# Altium schematic symbol library library-schematic-lib2.schlib: 138 symbols (part 2 of 2)
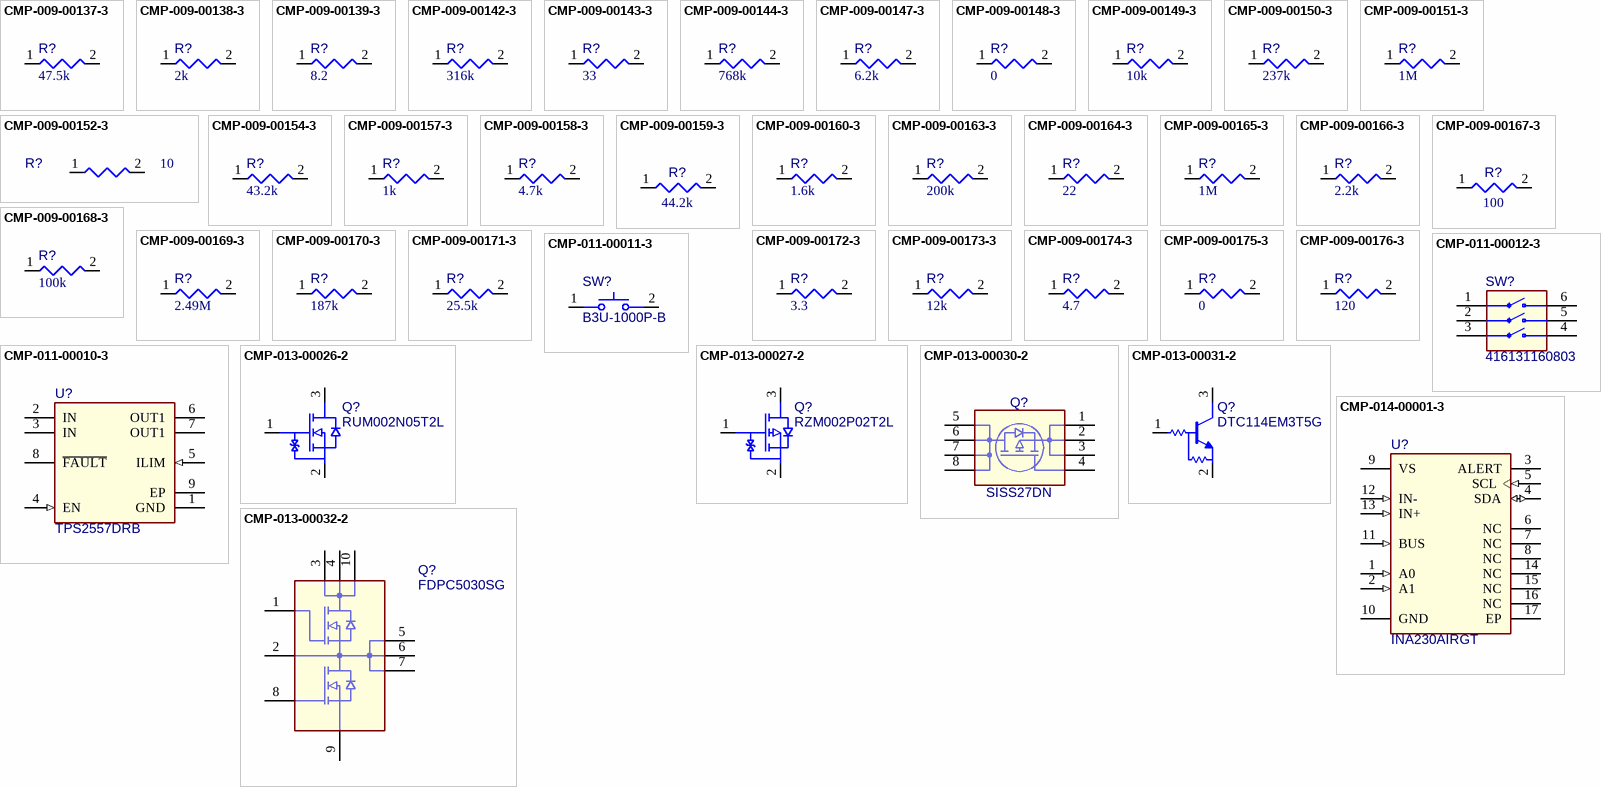
[diagram p4: symbols CMP-009-00137-3 to CMP-014-00001-3]

## CMP-009-00138-3
designator R?, comment value 2k  (hidden comment: Resistor 2K +/-5 % 0402 63 mW)
Chip Resistor, 2 kOhms, +/-5 %, 63 mW, -55 to 155 degC, 0402; Manufacturer: Bourns; Manufacturer Part Number: CR0402-JW-202GLF; Manufacturer: Yageo; Manufacturer Part Number: RC0402JR-072KL; Manufacturer: Panasonic; Manufacturer Part Number: ERJ-2GEJ202X; Manufacturer: Vishay Dale; Manufacturer Part Number: CRCW04022K00JNED; Manufacturer Part Number: CRCW04022K00JNTD; Power: 63mW; Tolerance: 5%; Case/Package: 0402; Max Operating Temperature: 155°C; Min Operating Temperature: -55°C; Pins: 2
footprint RESC0402(1005)_L (Chip Resistor, Body 1.0x0.5mm, IPC High Density)
pins: 1, 2
1 alternate drawing of the same symbol

## CMP-009-00139-3
designator R?, comment value 8.2  (hidden comment: Resistor 8R2  +/-5 % 0402 63 mW)
Chip Resistor, 8,2 Ohms, +/-5 %, 63 mW, -55 to 155 degC, 0402; Manufacturer: Vishay Dale; Manufacturer Part Number: CRCW04028R20JNTD; Manufacturer: Bourns; Manufacturer Part Number: CR0402-J/-8R2GLF; Manufacturer: Yageo; Manufacturer Part Number: RC0402JR-078R2L; Manufacturer Part Number: CRCW04028R20JNED; Manufacturer: Panasonic; Manufacturer Part Number: ERJ-2GEJ8R2X; Tolerance: 5%; Power: 63mW; Case/Package: 0402; Max Operating Temperature: 155°C; Min Operating Temperature: -55°C; Pins: 2
footprint RESC0402(1005)_L (Chip Resistor, Body 1.0x0.5mm, IPC High Density)
pins: 1, 2
1 alternate drawing of the same symbol

## CMP-009-00142-3
designator R?, comment value 316k  (hidden comment: Resistor 316K +/-1 % 0402 63 mW)
Chip Resistor, 316 kOhms, +/-1 %, 63 mW, -55 to 155 degC, 0402; Manufacturer: Yageo; Manufacturer Part Number: RC0402FR-07316KL; Manufacturer: Panasonic; Manufacturer Part Number: ERJ-2RKF3163X; Manufacturer: Bourns; Manufacturer Part Number: CR0402-FX-3163GLF; Manufacturer: Vishay; Manufacturer Part Number: CRCW0402316KFKED; Manufacturer: Vishay Dale; Manufacturer Part Number: CRCW0402316KFKTD; Power: 63mW; Tolerance: 1%; Case/Package: 0402; Max Operating Temperature: 155°C; Min Operating Temperature: -55°C; Pins: 2
footprint RESC0402(1005)_L (Chip Resistor, Body 1.0x0.5mm, IPC High Density)
pins: 1, 2
1 alternate drawing of the same symbol

## CMP-009-00143-3
designator R?, comment value 33  (hidden comment: Resistor 33R  +/-5 % 0402 63 mW)
Chip Resistor, 33 Ohms, +/-5 %, 63 mW, -55 to 155 degC, 0402; Manufacturer: Panasonic; Manufacturer Part Number: ERJ-2GEJ330X; Manufacturer: Vishay Dale; Manufacturer Part Number: CRCW040233R0JNTE; Manufacturer Part Number: CRCW040233R0JNEE; Manufacturer Part Number: CRCW040233R0JNED; Manufacturer: Bourns; Manufacturer Part Number: CR0402-JW-330GLF; Manufacturer Part Number: CRCW040233R0JNTD; Manufacturer: Yageo; Manufacturer Part Number: RC0402JR-0733RL; Tolerance: 5%; Power: 63mW; Case/Package: 0402; Max Operating Temperature: 155°C; Min Operating Temperature: -55°C; Pins: 2
footprint RESC0402(1005)_L (Chip Resistor, Body 1.0x0.5mm, IPC High Density)
pins: 1, 2
1 alternate drawing of the same symbol

## CMP-009-00144-3
designator R?, comment value 768k  (hidden comment: Resistor 768K +/-1 % 0402 63 mW)
Chip Resistor, 768 kOhms, +/-1 %, 63 mW, -55 to 155 degC, 0402; Manufacturer: Panasonic; Manufacturer Part Number: ERJ-2RKF7683X; Manufacturer: Vishay; Manufacturer Part Number: CRCW0402768KFKED; Manufacturer: Vishay Dale; Manufacturer Part Number: CRCW0402768KFKTD; Manufacturer: Bourns; Manufacturer Part Number: CR0402-FX-7683GLF; Manufacturer: Yageo; Manufacturer Part Number: RC0402FR-07768KL; Power: 63mW; Tolerance: 1%; Case/Package: 0402; Max Operating Temperature: 155°C; Min Operating Temperature: -55°C; Pins: 2
footprint RESC0402(1005)_L (Chip Resistor, Body 1.0x0.5mm, IPC High Density)
pins: 1, 2
1 alternate drawing of the same symbol

## CMP-009-00147-3
designator R?, comment value 6.2k  (hidden comment: Resistor 6K2  +/-5 % 0402 63 mW)
Chip Resistor, 6,2 kOhms, +/-5 %, 63 mW, -55 to 155 degC, 0402; Manufacturer: Vishay Dale; Manufacturer Part Number: CRCW04026K20JNTE; Manufacturer Part Number: CRCW04026K20JNED; Manufacturer: Bourns; Manufacturer Part Number: CR0402-JW-622GLF; Manufacturer: Vishay; Manufacturer Part Number: CRCW04026K20JNEE; Manufacturer: Panasonic; Manufacturer Part Number: ERJ-2GEJ622X; Manufacturer: Yageo; Manufacturer Part Number: RC0402JR-076K2L; Manufacturer Part Number: CRCW04026K20JNTD; Power: 63mW; Tolerance: 5%; Case/Package: 0402; Max Operating Temperature: 155°C; Min Operating Temperature: -55°C; Pins: 2
footprint RESC0402(1005)_L (Chip Resistor, Body 1.0x0.5mm, IPC High Density)
pins: 1, 2
1 alternate drawing of the same symbol

## CMP-009-00148-3
designator R?, comment value 0  (hidden comment: Jumper 0402)
Manufacturer: Bourns; Manufacturer Part Number: CR0402-J/-000GLF; Manufacturer: Vishay; Manufacturer Part Number: CRCW04020000Z0ED; Manufacturer: Panasonic; Manufacturer Part Number: ERJ-2GE0R00X; Manufacturer: Vishay Dale; Manufacturer Part Number: CRCW04020000Z0EE; Manufacturer Part Number: CRCW04020000Z0TD; Manufacturer: Yageo; Manufacturer Part Number: RC0402JR-070RL; Case/Package: 0402; Max Operating Temperature: 155°C; Min Operating Temperature: -55°C; Pins: 2
footprint RESC0402(1005)_L (Chip Resistor, Body 1.0x0.5mm, IPC High Density)
pins: 1, 2
1 alternate drawing of the same symbol

## CMP-009-00149-3
designator R?, comment value 10k  (hidden comment: Resistor 10K  +/-1 % 0402 63 mW)
Chip Resistor, 10 kOhms, +/-1 %, 63 mW, -55 to 125 degC, 0402; Manufacturer: Yageo; Manufacturer Part Number: RC0402FR-0710KL; Manufacturer: Panasonic; Manufacturer Part Number: ERJ-2RKF1002X; Manufacturer: Bourns; Manufacturer Part Number: CR0402-FX-1002GLF; Manufacturer: Vishay Dale; Manufacturer Part Number: CRCW040210K0FKEE; Manufacturer: Vishay; Manufacturer Part Number: CRCW0402-10K0FKED; Manufacturer Part Number: CRCW040210K0FKTE; Manufacturer Part Number: CRCW040210K0FKTD; Tolerance: 1%; Power: 63mW; Case/Package: 0402; Max Operating Temperature: 155°C; Min Operating Temperature: -55°C; Pins: 2
footprint RESC0402(1005)_L (Chip Resistor, Body 1.0x0.5mm, IPC High Density)
pins: 1, 2
1 alternate drawing of the same symbol

## CMP-009-00150-3
designator R?, comment value 237k  (hidden comment: Resistor 237K +/-1 % 0402 63 mW)
Chip Resistor, 237 kOhms, +/-1 %, 63 mW, -55 to 155 degC, 0402; Manufacturer: Vishay Dale; Manufacturer Part Number: CRCW0402237KFKTD; Manufacturer: Panasonic; Manufacturer Part Number: ERJ-2RKF2373X; Manufacturer: Bourns JW Miller; Manufacturer Part Number: CR0402-FX-2373GLF; Manufacturer: Yageo; Manufacturer Part Number: RC0402FR-07237KL; Manufacturer: Vishay; Manufacturer Part Number: CRCW0402237KFKED; Tolerance: 1%; Power: 63mW; Case/Package: 0402; Max Operating Temperature: 155°C; Min Operating Temperature: -55°C; Pins: 2
footprint RESC0402(1005)_L (Chip Resistor, Body 1.0x0.5mm, IPC High Density)
pins: 1, 2
1 alternate drawing of the same symbol

## CMP-009-00151-3
designator R?, comment value 1M  (hidden comment: Resistor 1M +/-5 % 0402 63 mW)
Chip Resistor, 1 MOhms, +/-5 %, 63 mW, -55 to 155 degC, 0402; Manufacturer: Vishay Dale; Manufacturer Part Number: CRCW04021M00JNTD; Manufacturer: Panasonic; Manufacturer Part Number: ERJ-2GEJ105X; Manufacturer Part Number: CRCW04021M00JNED; Manufacturer: Bourns; Manufacturer Part Number: CR0402-JW-105GLF; Manufacturer: Yageo; Manufacturer Part Number: RC0402JR-071ML; Tolerance: 5%; Power: 63mW; Case/Package: 0402; Max Operating Temperature: 155°C; Min Operating Temperature: -55°C; Pins: 2
footprint RESC0402(1005)_L (Chip Resistor, Body 1.0x0.5mm, IPC High Density)
pins: 1, 2
1 alternate drawing of the same symbol

## CMP-009-00152-3
designator R?, comment value 10  (hidden comment: Resistor 10R  +/-1 % 0402 63 mW)
Chip Resistor, 10 Ohms, +/-1 %, 63 mW, -55 to 155 degC, 0402; Manufacturer: Panasonic; Manufacturer Part Number: ERJ-2RKF10R0X; Manufacturer: Yageo; Manufacturer Part Number: RC0402FR-0710RL; Manufacturer: Vishay Dale; Manufacturer Part Number: CRCW040210R0FKEE; Manufacturer Part Number: CRCW040210R0FKTD; Manufacturer: Vishay; Manufacturer Part Number: CRCW040210R0FKED; Manufacturer: Bourns; Manufacturer Part Number: CR0402-FX-10R0GLF; Power: 63mW; Tolerance: 1%; Case/Package: 0402; Max Operating Temperature: 155°C; Min Operating Temperature: -55°C; Pins: 2
footprint RESC0402(1005)_L (Chip Resistor, Body 1.0x0.5mm, IPC High Density)
pins: 1, 2
1 alternate drawing of the same symbol

## CMP-009-00154-3
designator R?, comment value 43.2k  (hidden comment: Resistor 43K2 +/-1 % 0402 63 mW)
Chip Resistor, 43,2 kOhms, +/-1 %, 63 mW, -55 to 155 degC, 0402; Manufacturer: Panasonic; Manufacturer Part Number: ERJ-2RKF4322X; Manufacturer: Vishay; Manufacturer Part Number: CRCW040243K2FKED; Manufacturer: Vishay Dale; Manufacturer Part Number: CRCW040243K2FKTD; Manufacturer: Bourns; Manufacturer Part Number: CR0402-FX-4322GLF; Manufacturer: Yageo; Manufacturer Part Number: RC0402FR-0743K2L; Tolerance: 1%; Power: 63mW; Case/Package: 0402; Max Operating Temperature: 155°C; Min Operating Temperature: -55°C; Pins: 2
footprint RESC0402(1005)_L (Chip Resistor, Body 1.0x0.5mm, IPC High Density)
pins: 1, 2
1 alternate drawing of the same symbol

## CMP-009-00157-3
designator R?, comment value 1k  (hidden comment: Resistor 1K +/-5 % 0402 63 mW)
Chip Resistor, 1 kOhms, +/-5 %, 63 mW, -55 to 155 degC, 0402; Manufacturer: Vishay Dale; Manufacturer Part Number: CRCW04021K00JNED; Manufacturer Part Number: CRCW04021K00JNTE; Manufacturer Part Number: CRCW04021K00JNTD; Manufacturer Part Number: CRCW04021K00JNEE; Manufacturer: Panasonic; Manufacturer Part Number: ERJ-2GEJ102X; Manufacturer: Bourns; Manufacturer Part Number: CR0402-JW-102GLF; Manufacturer: Yageo; Manufacturer Part Number: RC0402JR-071KL; Tolerance: 5%; Power: 63mW; Case/Package: 0402; Max Operating Temperature: 155°C; Min Operating Temperature: -55°C; Pins: 2
footprint RESC0402(1005)_L (Chip Resistor, Body 1.0x0.5mm, IPC High Density)
pins: 1, 2
1 alternate drawing of the same symbol

## CMP-009-00158-3
designator R?, comment value 4.7k  (hidden comment: Resistor 4K7  +/-1 % 0402 63 mW)
Chip Resistor, 4,7 kOhms, +/-1 %, 63 mW, -55 to 155 degC, 0402; Manufacturer: Bourns; Manufacturer Part Number: CR0402-FX-4701GLF; Manufacturer: Vishay Dale; Manufacturer Part Number: CRCW04024K70FKTD; Manufacturer: Yageo; Manufacturer Part Number: RC0402FR-074K7L; Manufacturer: Vishay; Manufacturer Part Number: CRCW04024K70FKED; Manufacturer: Panasonic; Manufacturer Part Number: ERJ-2RKF4701X; Tolerance: 1%; Power: 63mW; Case/Package: 0402; Max Operating Temperature: 155°C; Min Operating Temperature: -55°C; Pins: 2
footprint RESC0402(1005)_L (Chip Resistor, Body 1.0x0.5mm, IPC High Density)
pins: 1, 2
1 alternate drawing of the same symbol

## CMP-009-00159-3
designator R?, comment value 44.2k  (hidden comment: Resistor 44K2 +/-1 % 0402 63 mW)
Chip Resistor, 44,2 kOhms, +/-1 %, 63 mW, -55 to 155 degC, 0402; Manufacturer: Bourns; Manufacturer Part Number: CR0402-FX-4422GLF; Manufacturer: Vishay; Manufacturer Part Number: CRCW040244K2FKED; Manufacturer: Panasonic; Manufacturer Part Number: ERJ-2RKF4422X; Manufacturer: Vishay Dale; Manufacturer Part Number: CRCW040244K2FKTD; Manufacturer: Yageo; Manufacturer Part Number: RC0402FR-0744K2L; Tolerance: 1%; Power: 63mW; Case/Package: 0402; Max Operating Temperature: 155°C; Min Operating Temperature: -55°C; Pins: 2
footprint RESC0402(1005)_L (Chip Resistor, Body 1.0x0.5mm, IPC High Density)
pins: 1, 2
1 alternate drawing of the same symbol

## CMP-009-00160-3
designator R?, comment value 1.6k  (hidden comment: Resistor 1K6 +/-5 % 0402 63 mW)
Chip Resistor, 1,6 kOhms, +/-5 %, 63 mW, -55 to 155 degC, 0402; Manufacturer: Vishay Dale; Manufacturer Part Number: CRCW04021K60JNED; Manufacturer: Panasonic; Manufacturer Part Number: ERJ-2GEJ162X; Manufacturer: Bourns; Manufacturer Part Number: CR0402JW162GLF; Manufacturer Part Number: CRCW04021K60JNTD; Manufacturer: Yageo; Manufacturer Part Number: RC0402JR-071K6L; Tolerance: 5%; Power: 63mW; Case/Package: 0402; Max Operating Temperature: 155°C; Min Operating Temperature: -55°C; Pins: 2
footprint RESC0402(1005)_L (Chip Resistor, Body 1.0x0.5mm, IPC High Density)
pins: 1, 2
1 alternate drawing of the same symbol

## CMP-009-00163-3
designator R?, comment value 200k  (hidden comment: Resistor 200K +/-1 % 0402 63 mW)
Chip Resistor, 200 kOhms, +/-1 %, 63 mW, -55 to 155 degC, 0402; Manufacturer: Vishay Dale; Manufacturer Part Number: CRCW0402200KFKEE; Manufacturer: Bourns; Manufacturer Part Number: CR0402-FX-2003GLF; Manufacturer: Vishay; Manufacturer Part Number: CRCW0402-200KFKED; Manufacturer Part Number: CRCW0402200KFKTD; Manufacturer: Yageo; Manufacturer Part Number: RC0402FR-07200KL; Manufacturer: Panasonic; Manufacturer Part Number: ERJ-2RKF2003X; Power: 63mW; Tolerance: 1%; Case/Package: 0402; Max Operating Temperature: 155°C; Min Operating Temperature: -55°C; Pins: 2
footprint RESC0402(1005)_L (Chip Resistor, Body 1.0x0.5mm, IPC High Density)
pins: 1, 2
1 alternate drawing of the same symbol

## CMP-009-00164-3
designator R?, comment value 22  (hidden comment: Resistor 22R  +/-5 % 0402 63 mW)
Chip Resistor, 22 Ohms, +/-5 %, 63 mW, -55 to 155 degC, 0402; Manufacturer: Bourns; Manufacturer Part Number: CR0402-JW-220GLF; Manufacturer: Vishay Dale; Manufacturer Part Number: CRCW040222R0JNEE; Manufacturer Part Number: CRCW040222R0JNTD; Manufacturer: Yageo; Manufacturer Part Number: RC0402JR-0722RL; Manufacturer: Panasonic; Manufacturer Part Number: ERJ-2GEJ220X; Manufacturer Part Number: CRCW040222R0JNED; Manufacturer Part Number: CRCW040222R0JNTE; Power: 63mW; Tolerance: 5%; Case/Package: 0402; Max Operating Temperature: 155°C; Min Operating Temperature: -55°C; Pins: 2
footprint RESC0402(1005)_L (Chip Resistor, Body 1.0x0.5mm, IPC High Density)
pins: 1, 2
1 alternate drawing of the same symbol

## CMP-009-00165-3
designator R?, comment value 1M  (hidden comment: Resistor 1M +/-1 % 0402 63 mW)
Chip Resistor, 1 MOhms, +/-1 %, 63 mW, -55 to 155 degC, 0402; Manufacturer: Vishay; Manufacturer Part Number: CRCW04021M00FKED; Power: 63mW; Tolerance: 1%; Case/Package: 0402; Pins: 2
footprint RESC0402(1005)_L (Chip Resistor, Body 1.0x0.5mm, IPC High Density)
pins: 1, 2
1 alternate drawing of the same symbol

## CMP-009-00166-3
designator R?, comment value 2.2k  (hidden comment: Resistor 2K2  +/-5 % 0402 63 mW)
Chip Resistor, 2,2 kOhms, +/-5 %, 63 mW, -55 to 155 degC, 0402; Manufacturer: Panasonic; Manufacturer Part Number: ERJ-2GEJ222X; Manufacturer: Bourns; Manufacturer Part Number: CR0402-JW-222GLF; Manufacturer: Vishay Dale; Manufacturer Part Number: CRCW04022K20JNEE; Manufacturer: Yageo; Manufacturer Part Number: RC0402JR-072K2L; Manufacturer Part Number: CRCW04022K20JNED; Manufacturer Part Number: CRCW04022K20JNTD; Manufacturer Part Number: CRCW04022K20JNTE; Power: 63mW; Tolerance: 5%; Case/Package: 0402; Max Operating Temperature: 155°C; Min Operating Temperature: -55°C; Pins: 2
footprint RESC0402(1005)_L (Chip Resistor, Body 1.0x0.5mm, IPC High Density)
pins: 1, 2
1 alternate drawing of the same symbol

## CMP-009-00167-3
designator R?, comment value 100  (hidden comment: Resistor 100R +/-1 % 0402 63 mW)
Chip Resistor, 100 Ohms, +/-1 %, 63 mW, -55 to 155 degC, 0402; Manufacturer: Yageo; Manufacturer Part Number: RC0402FR-07100RL; Manufacturer: Panasonic; Manufacturer Part Number: ERJ-2RKF1000X; Manufacturer: Vishay Dale; Manufacturer Part Number: CRCW0402100RFKTD; Manufacturer: Bourns; Manufacturer Part Number: CR0402-FX-1000GLF; Manufacturer Part Number: CRCW0402100RFKED; Tolerance: 1%; Power: 63mW; Case/Package: 0402; Max Operating Temperature: 155°C; Min Operating Temperature: -55°C; Pins: 2
footprint RESC0402(1005)_L (Chip Resistor, Body 1.0x0.5mm, IPC High Density)
pins: 1, 2
1 alternate drawing of the same symbol

## CMP-009-00168-3
designator R?, comment value 100k  (hidden comment: Resistor 100K +/-1 % 0402 63 mW)
Chip Resistor, 100 kOhms, +/-1 %, 63 mW, -55 to 155 degC, 0402; Manufacturer: Vishay Dale; Manufacturer Part Number: CRCW0402100KFKEE; Manufacturer Part Number: CRCW0402100KFKTD; Manufacturer: Bourns; Manufacturer Part Number: CR0402-FX-1003GLF; Manufacturer: Yageo; Manufacturer Part Number: RC0402FR-07100KL; Manufacturer: Vishay; Manufacturer Part Number: CRCW0402100KFKED; Manufacturer: Panasonic; Manufacturer Part Number: ERJ-2RKF1003X; Tolerance: 1%; Power: 63mW; Case/Package: 0402; Max Operating Temperature: 155°C; Min Operating Temperature: -55°C; Pins: 2
footprint RESC0402(1005)_L (Chip Resistor, Body 1.0x0.5mm, IPC High Density)
pins: 1, 2
1 alternate drawing of the same symbol

## CMP-009-00169-3
designator R?, comment value 2.49M  (hidden comment: Resistor 2M49 +/-1 % 0402 63 mW)
Chip Resistor, 2,49 MOhms, +/-1 %, 63 mW, -55 to 155 degC, 0402; Manufacturer: Vishay; Manufacturer Part Number: CRCW04022M49FKED; Manufacturer: Yageo; Manufacturer Part Number: RC0402FR-072M49L; Manufacturer: Vishay Dale; Manufacturer Part Number: CRCW04022M49FKTD; Tolerance: 1%; Power: 63mW; Case/Package: 0402; Max Operating Temperature: 155°C; Min Operating Temperature: -55°C; Pins: 2
footprint RESC0402(1005)_L (Chip Resistor, Body 1.0x0.5mm, IPC High Density)
pins: 1, 2
1 alternate drawing of the same symbol

## CMP-009-00170-3
designator R?, comment value 187k  (hidden comment: Resistor 187K +/-1 % 0402 63 mW)
Chip Resistor, 187 kOhms, +/-1 %, 63 mW, -55 to 155 degC, 0402; Manufacturer: Vishay Dale; Manufacturer Part Number: CRCW0402187KFKEE; Manufacturer: Yageo; Manufacturer Part Number: RC0402FR-07187KL; Manufacturer: Vishay; Manufacturer Part Number: CRCW0402187KFKED; Manufacturer: Panasonic; Manufacturer Part Number: ERJ-2RKF1873X; Manufacturer: Bourns; Manufacturer Part Number: CR0402-FX-1873GLF; Manufacturer Part Number: CRCW0402187KFKTD; Power: 63mW; Tolerance: 1%; Case/Package: 0402; Max Operating Temperature: 155°C; Min Operating Temperature: -55°C; Pins: 2
footprint RESC0402(1005)_L (Chip Resistor, Body 1.0x0.5mm, IPC High Density)
pins: 1, 2
1 alternate drawing of the same symbol

## CMP-009-00171-3
designator R?, comment value 25.5k  (hidden comment: Resistor 25K5 +/-1 % 0402 63 mW)
Chip Resistor, 25,5 kOhms, +/-1 %, 63 mW, -55 to 155 degC, 0402; Manufacturer: Yageo; Manufacturer Part Number: RC0402FR-0725K5L; Manufacturer: Vishay; Manufacturer Part Number: CRCW040225K5FKED; Manufacturer: Bourns; Manufacturer Part Number: CR0402-FX-2552GLF; Manufacturer: Panasonic; Manufacturer Part Number: ERJ-2RKF2552X; Manufacturer: Vishay Dale; Manufacturer Part Number: CRCW040225K5FKTD; Power: 63mW; Tolerance: 1%; Case/Package: 0402; Max Operating Temperature: 155°C; Min Operating Temperature: -55°C; Pins: 2
footprint RESC0402(1005)_L (Chip Resistor, Body 1.0x0.5mm, IPC High Density)
pins: 1, 2
1 alternate drawing of the same symbol

## CMP-009-00172-3
designator R?, comment value 3.3  (hidden comment: Resistor 3R3  +/-5 % 0402 63 mW)
Chip Resistor, 3,3 Ohms, +/-5 %, 63 mW, -55 to 155 degC, 0402; Manufacturer: Vishay Dale; Manufacturer Part Number: CRCW04023R30JNED; Manufacturer: Yageo; Manufacturer Part Number: RC0402JR-073R3L; Manufacturer: Panasonic; Manufacturer Part Number: ERJ-2GEJ3R3X; Manufacturer: Bourns; Manufacturer Part Number: CR0402-J/-3R3GLF; Manufacturer Part Number: CRCW04023R30JNTD; Tolerance: 5%; Power: 63mW; Case/Package: 0402; Max Operating Temperature: 155°C; Min Operating Temperature: -55°C; Pins: 2
footprint RESC0402(1005)_L (Chip Resistor, Body 1.0x0.5mm, IPC High Density)
pins: 1, 2
1 alternate drawing of the same symbol

## CMP-009-00173-3
designator R?, comment value 12k  (hidden comment: Resistor 12K  +/-1 % 0402 63 mW)
Chip Resistor, 12 kOhms, +/-1 %, 63 mW, -55 to 155 degC, 0402; Manufacturer: Bourns; Manufacturer Part Number: CR0402-FX-1202GLF; Manufacturer: Yageo; Manufacturer Part Number: RC0402FR-0712KL; Manufacturer: Vishay; Manufacturer Part Number: CRCW040212K0FKED; Manufacturer: Panasonic; Manufacturer Part Number: ERJ-2RKF1202X; Manufacturer: Vishay Dale; Manufacturer Part Number: CRCW040212K0FKTD; Tolerance: 1%; Power: 63mW; Case/Package: 0402; Max Operating Temperature: 155°C; Min Operating Temperature: -55°C; Pins: 2
footprint RESC0402(1005)_L (Chip Resistor, Body 1.0x0.5mm, IPC High Density)
pins: 1, 2
1 alternate drawing of the same symbol

## CMP-009-00174-3
designator R?, comment value 4.7  (hidden comment: Resistor 4R7  +/-5 % 0805 125 mW)
Chip Resistor, 4,7 Ohms, +/-5 %, 125 mW, -55 to 155 degC, 0805; Manufacturer: Rohm; Manufacturer Part Number: MCR10EZPJ4R7; Manufacturer: Panasonic; Manufacturer Part Number: ERJ-6GEYJ4R7V; Manufacturer: Vishay Dale; Manufacturer Part Number: CRCW08054R70JNEA; Manufacturer: Vishay Intertechnology; Manufacturer Part Number: CRCW08054R70JNEB; Manufacturer: Yageo; Manufacturer Part Number: RC0805JR-074R7L; Manufacturer Part Number: CRCW08054R70JNTA; Manufacturer Part Number: CRCW08054R70JNEC; Manufacturer: Bourns; Manufacturer Part Number: CR0805-J/-4R7ELF; Power: 125mW; Tolerance: 5%; Case/Package: 0805; Max Operating Temperature: 155°C; Min Operating Temperature: -55°C; Pins: 2
footprint RESC0805(2012)_L (Chip Resistor, Body 2.0x1.3mm, IPC High Density)
pins: 1, 2
1 alternate drawing of the same symbol

## CMP-009-00175-3
designator R?, comment value 0  (hidden comment: Jumper 0603)
Manufacturer: Yageo; Manufacturer Part Number: RC0603JR-070RL; Manufacturer: Vishay; Manufacturer Part Number: CRCW0603-0000Z0EA; Manufacturer: Panasonic; Manufacturer Part Number: ERJ-3GEY0R00V; Manufacturer: Vishay Dale; Manufacturer Part Number: CRCW06030000Z0EC; Manufacturer Part Number: CRCW06030000Z0EB; Manufacturer: Bourns; Manufacturer Part Number: CR0603-J/-000ELF; Manufacturer Part Number: CRCW06030000Z0TA; Case/Package: 0603; Max Operating Temperature: 155°C; Min Operating Temperature: -55°C; Pins: 2
footprint RESC0603(1608)_L (Chip Resistor, Body 1.6x0.8mm, IPC High Density)
pins: 1, 2
1 alternate drawing of the same symbol

## CMP-009-00176-3
designator R?, comment value 120  (hidden comment: Resistor 120R +/-5 % 0603 0.1 W)
Chip Resistor, 120 Ohms, +/-5 %, 0.1 W, -55 to 155 degC, 0603; Manufacturer: Bourns; Manufacturer Part Number: CR0603-JW-121ELF; Manufacturer: Panasonic; Manufacturer Part Number: ERJ-3GEYJ121V; Manufacturer: Vishay Dale; Manufacturer Part Number: CRCW0603120RJNEA; Manufacturer Part Number: CRCW0603120RJNEB; Manufacturer: Yageo; Manufacturer Part Number: RC0603JR-07120RL; Manufacturer Part Number: CRCW0603120RJNTA; Tolerance: 5%; Power: 100mW; Case/Package: 0603; Max Operating Temperature: 155°C; Min Operating Temperature: -55°C; Pins: 2
footprint RESC0603(1608)_L (Chip Resistor, Body 1.6x0.8mm, IPC High Density)
pins: 1, 2
1 alternate drawing of the same symbol

## CMP-011-00010-3
designator U?, comment TPS2557DRB
Precision Adjustable Current-Limited Power-Distribution Switch, 0.5 to 5.0 A Current Limit, -40 to 85 degC, 8-pin SON (DRB), Green (RoHS & no Sb/Br); Manufacturer: Texas Instruments; Manufacturer Part Number: TPS2557DRBR; Manufacturer Part Number: TPS2557DRBT; ComponentLink1URL: http://www.ti.com/general/docs/lit/getliterature.tsp?genericPartNumber=TPS2557&fileType=pdf; Mounting Technology: Surface Mount; ComponentLink1Description: Datasheet; Pins: 9; Case/Package: 8-Pin Plastic Small Outline No-Lead, 3 x 3 x 1 mm Body, 0.65 mm Pitch, Exposed Pad; Manufacturer Part Number: TPS2557DRB
footprint DRB0008B_V (SON, 8-Leads, Body 3x3mm, Pitch 0.65mm, Thermal Pad 2.4x1.65mm, TI Recommended)
pins: 1 GND (power) "Ground connection; connect externally to PowerPAD", 2 IN (power) "Input voltage; connect a 0.1 uF or greater ceramic capacitor from IN to GND as close to the IC as possible.", 3 IN (power) "Input voltage; connect a 0.1 uF or greater ceramic capacitor from IN to GND as close to the IC as possible.", 4 EN (in) "Enable input, logic high turns on power switch", 5 ILIM (in) "External resistor used to set current-limit threshold; recommended 20 k ohm =< RILIM =< 187 k ohm", 6 OUT1 (power) "Power-switch output", 7 OUT1 (power) "Power-switch output", 8 ~{FAULT} (hiz) "Active-low open-drain output, asserted during overcurrent or overtemperature conditions.", 9 EP (power) "Internally connected to GND; used to heat-sink the part to the circuit board traces. Connect PowerPAD to GND pin externally."

## CMP-011-00011-3
designator SW?, comment B3U-1000P-B
Ultra-small Surface-mounting Tactile Switches with High Contact Reliability, SPST-NO, -25 to 70 degC, 2-Pin SMD, RoHS, Tape and Reel; Manufacturer: Omron; Current Rating: 50mA; Voltage Rating: 12V; Pins: 2; RoHS Compliant: Details; Manufacturer Part Number: B3U-1000P-B
footprint OMRON-B3U-1000P-2-B_V (SMT, 2-Leads, Body 3x2.5mm)
pins: 1, 2

## CMP-011-00012-3
designator SW?, comment 416131160803
WS-DISV 1.27 mm small compact SMD Dip Switch with top tape; Manufacturer: Wurth Electronics; Manufacturer: Wuerth Elektronik; ComponentLink1URL: http://www.we-online.com; ComponentLink2URL: http://katalog.we-online.de/em/datasheet/4161311608xx.pdf; ComponentLink1Description: Manufacturer URL; ComponentLink2Description: Datasheet; Pins: 6; Manufacturer Part Number: 416131160803
footprint 416131160803 (03p, 1.27mm Pitch, Horizontal, HP Type, SMT, flat Actuator, black, with Tape, T&R)
pins: 1, 2, 3, 4, 5, 6

## CMP-013-00026-2
designator Q?, comment RUM002N05T2L
Nch Small Signal MOSFET, 50 V, 200 mA, 3-Pin SOT723, RoHS, Tape and Reel; Manufacturer: Rohm; Vgs(th) (Max) @ Id: 1V@1mA; Pins: 3; Manufacturer Part Number: RUM002N05T2L
footprint ROHM-SOT723-3_V (SOT723, 3-Leads, Body 1.2x0.8mm, Pitch 0.8mm)
pins: 1 G, 2 S, 3 D

## CMP-013-00027-2
designator Q?, comment RZM002P02T2L
Pch Small Signal MOSFET, 20 V, 200 mA, 3-Pin SOT723, RoHS, Tape and Reel; Manufacturer: Rohm; Vgs(th) (Max) @ Id: 1V@100µA; Pins: 3; Manufacturer Part Number: RZM002P02T2L
footprint ROHM-SOT723-3_V (SOT723, 3-Leads, Body 1.2x0.8mm, Pitch 0.8mm)
pins: 1 G, 2 S, 3 D

## CMP-013-00030-2
designator Q?, comment SISS27DN
P-Channel (D-S) MOSFET, 30 V, 50 A, -50 to 150 degC, 8-Pin PowerPAK1212, RoHS, Tape and Reel; Manufacturer: Vishay Siliconix; Manufacturer Part Number: SISS27DN-T1-GE3; Vgs(th) (Max) @ Id: 2.2V@250µA; Pins: 8
footprint VISH-PPAK1212-8_V (SMD, 8-Leads, Body 3.21x3.21mm, Pitch 0.66mm)
pins: 1 S, 2 S, 3 S, 4 G, 5 D, 6 D, 7 D, 8 D

## CMP-013-00031-2
designator Q?, comment DTC114EM3T5G
Digital Transistor (BRT), R1=10 kOhm, R2=10 kOhm, NPN Transistor, 3-Pin SOT-723, Pb-Free, Tape and Reel; Manufacturer: ON Semiconductor; Case/Package: SOT-723; ComponentLink1URL: http://www.onsemi.com/; Mounting Technology: SMT; Pins: 3; ComponentLink2URL: http://www.onsemi.cn/pub_link/Collateral/DTC114E-D.PDF; RoHS Compliant: TRUE; ComponentLink1Description: Manufacturer URL; ComponentLink2Description: Datasheet; ComponentLink3Description: Package Specification; ComponentLink3URL: http://www.onsemi.com/pub_link/Collateral/631AA.PDF; Manufacturer Part Number: DTC114EM3T5G
footprint ROHM-SOT723-3_V (SOT723, 3-Leads, Body 1.2x0.8mm, Pitch 0.8mm)
pins: 1 B, 2 E, 3 C

## CMP-013-00032-2
designator Q?, comment FDPC5030SG
Asymmetric Dual N-Channel PowerTrench® Power Clip MOSFET, 30 V, -55 to 150 degC, 8-Pin PQFN, RoHS, Tape and Reel; Manufacturer: ON Semiconductor / Fairchild; Pins: 10; Manufacturer Part Number: FDPC5030SG
footprint ONSC-PQFN-8_V (QFN, 8-Leads, Body 5x6mm, Pitch 1.27mm)
pins: 1 HSG, 2 GR, 3 HSD, 4 HSD, 5 SW, 6 SW, 7 SW, 8 LSG, 9 LSS, 10 HSD

## CMP-014-00001-3
designator U?, comment INA230AIRGT
High or Low Side Measurement, 2.7 to 5.5 V, -40 to 125 degC, 16-Pin QFN, RoHS, Tape and Reel; Manufacturer: Texas Instruments; Manufacturer Part Number: INA230AIRGTR; Mounting Technology: SurfaceMount; Pins: 17; Manufacturer Part Number: INA230AIRGT
footprint RGT0016C_V (QFN, 16-Leads, Body 3x3mm, Pitch 0.5mm, Thermal Pad 1.65x1.65mm)
pins: 1 A0 (in), 2 A1 (in), 3 ALERT (oc), 4 SDA (io), 5 SCL (in), 6 NC, 7 NC, 8 NC, 9 VS (power), 10 GND (power), 11 BUS (in), 12 IN- (in), 13 IN+ (in), 14 NC, 15 NC, 16 NC, 17 EP (power)

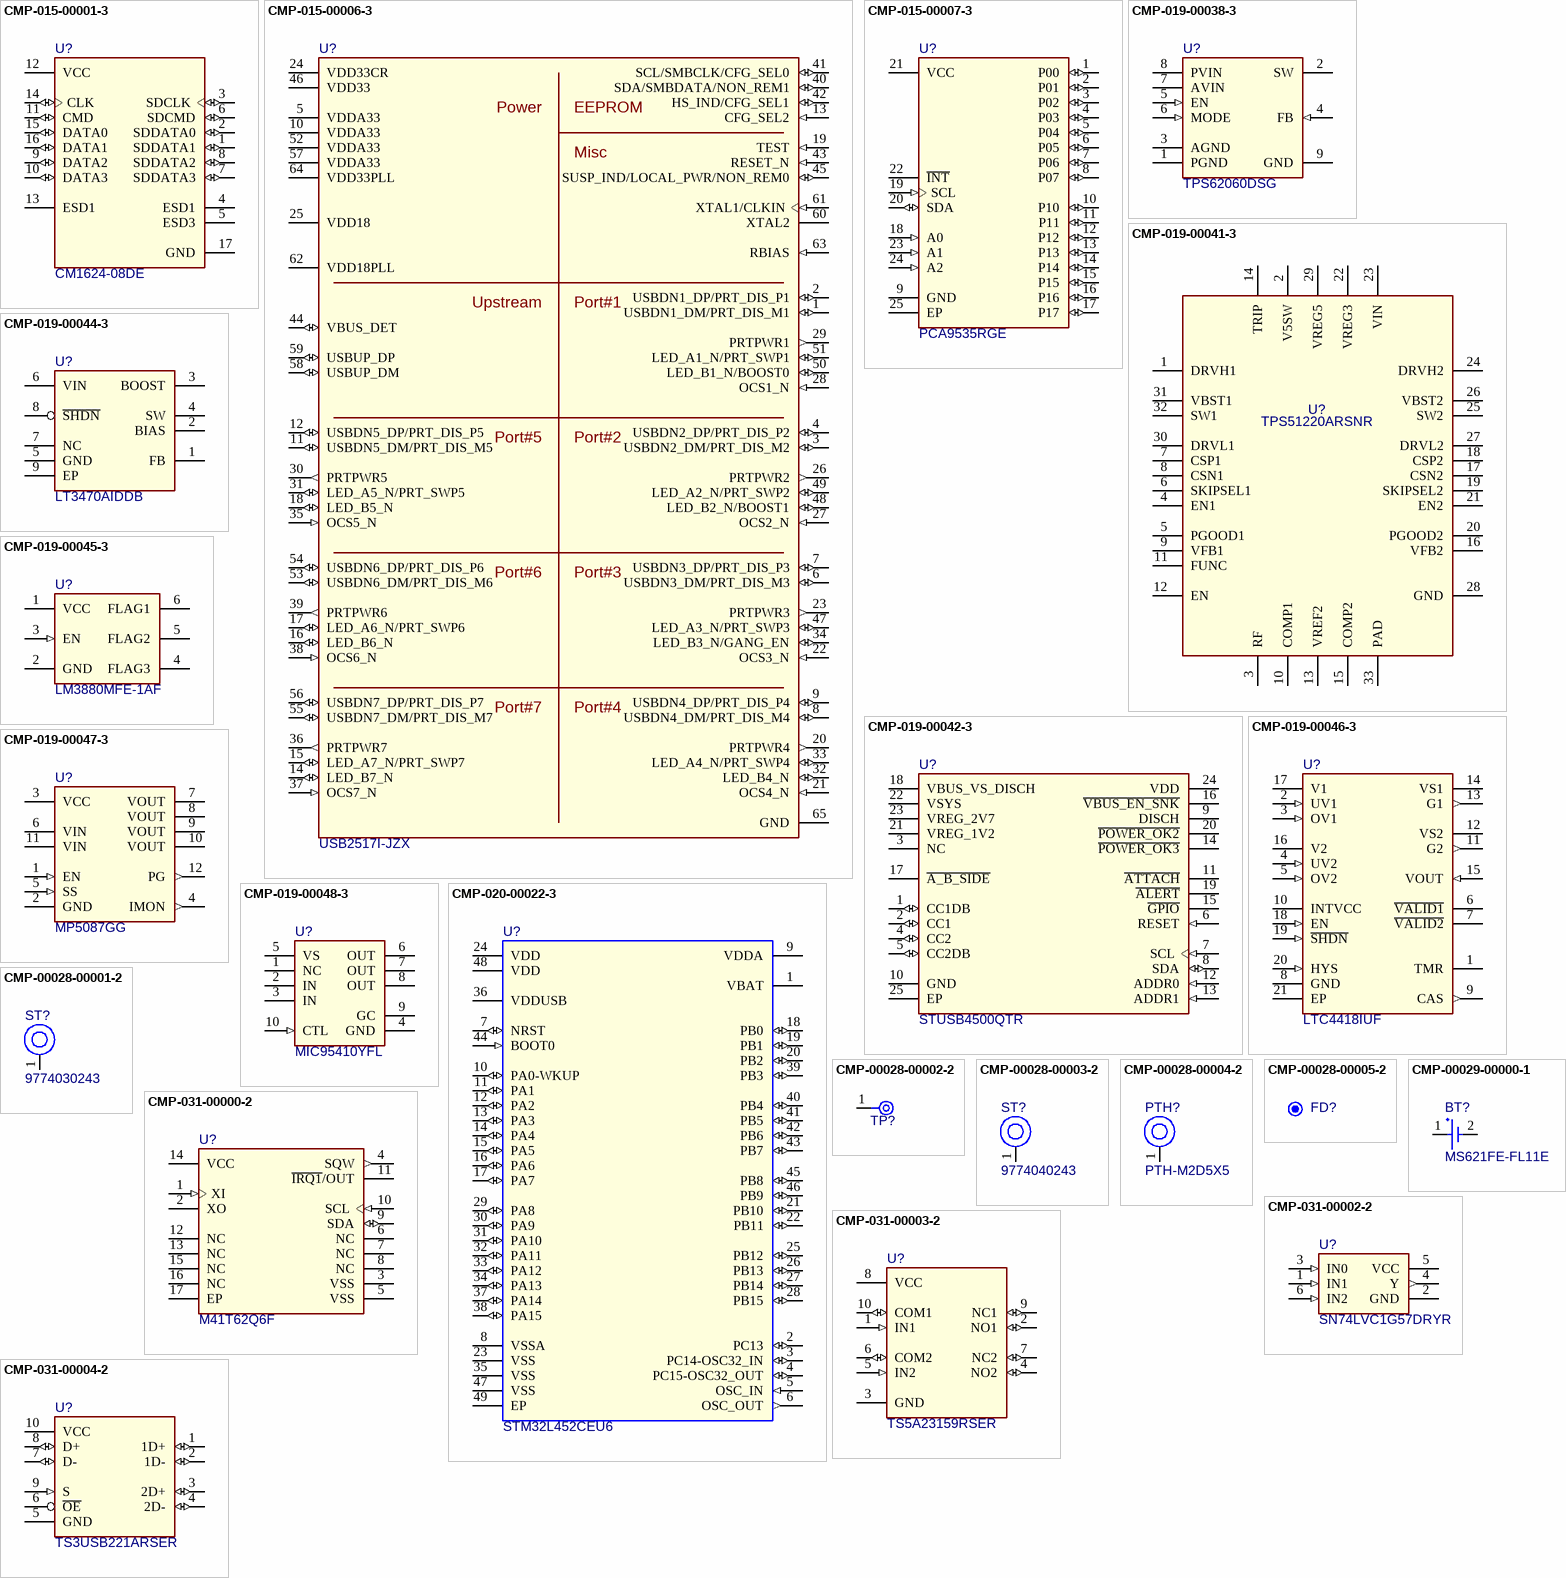
[diagram p3: symbols CMP-015-00001-3 to CMP-031-00004-2]

## CMP-015-00001-3
designator U?, comment CM1624-08DE
EMI Filter for T-Flash / MicroSD Interface, -40 to 85 degC, 16-Pin UDFN, Pb-Free, Tape and Reel; Manufacturer: ON Semiconductor; ComponentLink3Description: Package Specification; ComponentLink3URL: http://www.onsemi.com/pub_link/Collateral/517BE.PDF; ComponentLink1Description: Manufacturer URL; ComponentLink2Description: Datasheet; Mounting Technology: Surface Mount; ComponentLink2URL: http://www.onsemi.com/pub_link/Collateral/CM1624-D.PDF; ComponentLink1URL: http://www.onsemi.com/; Pins: 17; RoHS Compliant: Pb-Free; Manufacturer Part Number: CM1624-08DE
footprint ONSC-UDFN-16-517BE-01_V (SON, 16-Leads, Body 3.3x1.35mm, Pitch 0.4mm, Thermal Pad 3x0.5mm)
pins: 1 SDDATA1 (io) "Data line #1 input/output with pull-up resistor", 2 SDDATA0 (io) "Data line #0 input/output with pull-up resistor", 3 SDCLK (io) "Clock line Input/Output", 4 ESD1 "Single ESD", 5 ESD3 "Single ESD", 6 SDCMD (io) "Command Line Input/Output", 7 SDDATA3 (io) "Data line #3 input/output with pull-up resistor", 8 SDDATA2 (io) "Data line #2 input/output with pull-up resistor", 9 DATA2 (io) "Data line #2 input/output with pull-up resistor", 10 DATA3 (io) "Data line #3 input/output with pull-up resistor", 11 CMD (io) "Command Line Input/Output", 12 VCC (power) "Power Supply ESD Protection", 13 ESD1 "Single ESD", 14 CLK (io) "Clock line Input/Output", 15 DATA0 (io) "Data line #0 input/output with pull-up resistor", 16 DATA1 (io) "Data line #1 input/output with pull-up resistor", 17 GND (power) "Ground return to shield"

## CMP-015-00006-3
designator U?, comment USB2517I-JZX
Industrial Temperature Rated USB 2.0 Hi-Speed 7-Port Hub Controller, 3.3 V, -40 to 85 degC, 64-Pin QFN, RoHS, Tube; Manufacturer: Microchip; Manufacturer Part Number: USB2517I-JZX-TR; Mounting Technology: SurfaceMount; Case/Package: 64-VFQFNExposedPad; Pins: 65
footprint MCHP-QFN-64-4700X4700TP (QFN, 64-Leads, Body 9.1x9.1mm, Pitch 0.5mm, Thermal Pad 4.7x4.7mm)
pins: 1 USBDN1_DM/PRT_DIS_M1 (io), 2 USBDN1_DP/PRT_DIS_P1 (io), 3 USBDN2_DM/PRT_DIS_M2 (io), 4 USBDN2_DP/PRT_DIS_P2 (io), 5 VDDA33 (power) ""VDD Analog I/O.+3.3V Filtered analog PHY power which is shared between", 6 USBDN3_DM/PRT_DIS_M3 (io), 7 USBDN3_DP/PRT_DIS_P3 (io), 8 USBDN4_DM/PRT_DIS_M4 (io), 9 USBDN4_DP/PRT_DIS_P4 (io), 10 VDDA33 (power) ""VDD Analog I/O.+3.3V Filtered analog PHY power which is shared between", 11 USBDN5_DM/PRT_DIS_M5 (io), 12 USBDN5_DP/PRT_DIS_P5 (io), 13 CFG_SEL2 (in) "Configuration Programming Select", 14 LED_B7_N (io) "Enhanced Indicator LED for ports 7", 15 LED_A7_N/PRT_SWP7 (io), 16 LED_B6_N (io) "Enhanced Indicator LED for ports 6", 17 LED_A6_N/PRT_SWP6 (io), 18 LED_B5_N (io) "Enhanced Indicator LED for ports 5", 19 TEST (in) "TEST pin", 20 PRTPWR4 (out) "USB Power Enable", 21 OCS4_N (in) "Over-current Sense", 22 OCS3_N (in) "Over-current Sense", 23 PRTPWR3 (out) "USB Power Enable", 24 VDD33CR (power) ""VDDIO/VDD 3.3 Core Regulator Reference.+3.3V power supply for the Digital I/O. If the internal core", 25 VDD18 (power) ""VDD Core.+1.8V core power. This pin must have a 1.0uF (or greater) +/-20%", 26 PRTPWR2 (out) "USB Power Enable", 27 OCS2_N (in) "Over-current Sense", 28 OCS1_N (in) "Over-current Sense", 29 PRTPWR1 (out) "USB Power Enable", 30 PRTPWR5 (out) "USB Power Enable", 31 LED_A5_N/PRT_SWP5 (io), 32 LED_B4_N (io) "Enhanced Indicator LED for ports 4", 33 LED_A4_N/PRT_SWP4 (io), 34 LED_B3_N/GANG_EN (io), 35 OCS5_N (in) "Over-current Sense", 36 PRTPWR7 (out) "USB Power Enable", 37 OCS7_N (in) "Over-current Sense", 38 OCS6_N (in) "Over-current Sense", 39 PRTPWR6 (out) "USB Power Enable", 40 SDA/SMBDATA/NON_REM1 (io), 41 SCL/SMBCLK/CFG_SEL0 (io), 42 HS_IND/CFG_SEL1 (io), 43 RESET_N (in) "RESET Input", 44 VBUS_DET (io) "Detect Upstream VBUS Power", 45 SUSP_IND/LOCAL_PWR/NON_REM0 (io), 46 VDD33 (power) "VDD I/O.+3.3V Digital I/O power", 47 LED_A3_N/PRT_SWP3 (io), 48 LED_B2_N/BOOST1 (io), 49 LED_A2_N/PRT_SWP2 (io), 50 LED_B1_N/BOOST0 (io), 51 LED_A1_N/PRT_SWP1 (io), 52 VDDA33 (power) ""VDD Analog I/O.+3.3V Filtered analog PHY power which is shared between", 53 USBDN6_DM/PRT_DIS_M6 (io), 54 USBDN6_DP/PRT_DIS_P6 (io), 55 USBDN7_DM/PRT_DIS_M7 (io), 56 USBDN7_DP/PRT_DIS_P7 (io), 57 VDDA33 (power) ""VDD Analog I/O.+3.3V Filtered analog PHY power which is shared between", 58 USBUP_DM (io) "USB Bus Data", 59 USBUP_DP (io) "USB Bus Data", 60 XTAL2 "Crystal Output", 61 XTAL1/CLKIN (in) "Crystal Input/External Clock Input", 62 VDD18PLL (power) ""VDD PLL.+1.8V Filtered analog power for internal PLL. This pin must have", 63 RBIAS (in) "USB Transceiver Bias", 64 VDD33PLL (power) "VDD 3.3 PLL Regulator Reference.+3.3V power supply for the Digital I/O. If the internal PLL 1.8V regulator is enabled, then this pin acts as the regulator input.", 65 GND (power) "Ground"
text: Power; EEPROM; Misc; Upstream; Port#1; Port#5; Port#2; Port#6; Port#3; Port#7; Port#4

## CMP-015-00007-3
designator U?, comment PCA9535RGE
Remote 16-Bit I2C and SMBus I/O Expander with Interrupt Output and Configuration Registers, 2.3 to 5.5 V, -40 to 85 degC, 24-pin VQFN (RGE), Green (RoHS & no Sb/Br); Manufacturer: Texas Instruments; Manufacturer Part Number: PCA9535RGER; ComponentLink1URL: http://www.ti.com/general/docs/lit/getliterature.tsp?genericPartNumber=PCA9535&fileType=pdf; ComponentLink2URL: http://www.ti.com/litv/pdf/mpds211a; ComponentLink1Description: Datasheet; Mounting Technology: Surface Mount; ComponentLink2Description: Package Specification; Pins: 25
footprint RGE0024C (QFN, 24-Leads, Body 4x4mm, Pitch 0.5mm, Thermal Pad 2.1x2.1mm)
pins: 1 P00 (io) "P-port input/output. Push-pull design structure.", 2 P01 (io) "P-port input/output. Push-pull design structure.", 3 P02 (io) "P-port input/output. Push-pull design structure.", 4 P03 (io) "P-port input/output. Push-pull design structure.", 5 P04 (io) "P-port input/output. Push-pull design structure.", 6 P05 (io) "P-port input/output. Push-pull design structure.", 7 P06 (io) "P-port input/output. Push-pull design structure.", 8 P07 (io) "P-port input/output. Push-pull design structure.", 9 GND (power) "Ground", 10 P10 (io) "P-port input/output. Push-pull design structure.", 11 P11 (io) "P-port input/output. Push-pull design structure.", 12 P12 (io) "P-port input/output. Push-pull design structure.", 13 P13 (io) "P-port input/output. Push-pull design structure.", 14 P14 (io) "P-port input/output. Push-pull design structure.", 15 P15 (io) "P-port input/output. Push-pull design structure.", 16 P16 (io) "P-port input/output. Push-pull design structure.", 17 P17 (io) "P-port input/output. Push-pull design structure.", 18 A0 (in) "Address input 0. Connect directly to VCC or ground.", 19 SCL (in) "Serial clock bus. Connect to VCC through a pullup resistor.", 20 SDA (io) "Serial data bus. Connect to VCC through a pullup resistor.", 21 VCC (power) "Supply voltage", 22 ~{INT} (oc) "Interrupt output. Connect to VCC through a pullup resistor.", 23 A1 (in) "Address input 1. Connect directly to VCC or ground.", 24 A2 (in) "Address input 2. Connect directly to VCC or ground.", 25 EP "Exposed thermal pad"

## CMP-019-00038-3
designator U?, comment TPS62060DSG
Step Down Converter, 3 MHz, 1.6 A, -45 to 85 degC, 8-Pin WSON, RoHS, Tape and Reel; Manufacturer: Texas Instruments; Manufacturer Part Number: TPS62060DSGR; Pins: 9
footprint DSG0008A_V (SON, 8-Leads, Body 2x2mm, Pitch 0.5mm, Thermal Pad 1.6x0.9mm, TI Recommended)
pins: 1 PGND (power) "GND supply pin for the output stage.", 2 SW (power) "This is the switch pin and is connected to the internal MOSFET switches. Connect the external inductor between this terminal and the output capacitor.", 3 AGND (power) "Analog GND supply pin for the control circuit.", 4 FB (in) "Feedback pin for the internal regulation loop. Connect the external resistor divider to this pin. In case of fixed output voltage option, connect this pin directly to the output capacitor", 5 EN (in) "This is the enable pin of the device. Pulling this pin to low forces the device into shutdown mode. Pulling this pin to high enables the device. This pin must be terminated", 6 MODE (in) "MODE: MODE pin = high forces the device to operate in fixed frequency PWM mode. MODE pin = low enables the Power Save Mode with automatic transition from PFM mode to fixed frequency PWM mode.", 7 AVIN (power) "Analog VIN power supply for the control circuit. Need to be connected to PVIN and input capacitor.", 8 PVIN (power) "VIN power supply pin for the output stage.", 9 GND (power) "For good thermal performance, this PAD must be soldered to the land pattern on the pcb. This PAD should be used as device GND."

## CMP-019-00041-3
designator U?, comment TPS51220ARSNR
Fixed Frequency, 99% Duty Cycle Peak Current Mode Notebook System Power Controller; Manufacturer: Texas Instruments; Max Supply Voltage: 32V; Output Voltage: 12V; Max Operating Temperature: 85°C; Min Operating Temperature: -40°C; Pins: 33; Manufacturer Part Number: TPS51220ARSNR
footprint RSN0032B (Texas Instruments)
pins: 1 DRVH1, 2 V5SW, 3 RF, 4 EN1, 5 PGOOD1, 6 SKIPSEL1, 7 CSP1, 8 CSN1, 9 VFB1, 10 COMP1, 11 FUNC, 12 EN, 13 VREF2, 14 TRIP, 15 COMP2, 16 VFB2, 17 CSN2, 18 CSP2, 19 SKIPSEL2, 20 PGOOD2, 21 EN2, 22 VREG3, 23 VIN, 24 DRVH2, 25 SW2, 26 VBST2, 27 DRVL2, 28 GND, 29 VREG5, 30 DRVL1, 31 VBST1, 32 SW1, 33 PAD

## CMP-019-00042-3
designator U?, comment STUSB4500QTR
Standalone USB PD Sink Controller with Short-to-VBUS Protections, 4.1 to 22 V, -45 to 105 degC, 24-Pin QFN, RoHS, Tape and Reel; Manufacturer: STMicroelectronics; Pins: 25; Manufacturer Part Number: STUSB4500QTR
footprint STM-QFN-24_V (QFN, 24-Leads, Body 4x4mm, Pitch 0.5mm, Thermal Pad 2.7x2.7mm)
pins: 1 CC1DB (io) "Dead battery enable on CC1 pin", 2 CC1 (io) "Type-C configuration channel 1", 3 NC, 4 CC2 (io) "Type-C configuration channel 2", 5 CC2DB (io) "Dead battery enable on CC2 pin", 6 RESET (in) "Reset input, active high", 7 SCL (in) "I2C clock input", 8 SDA (io) "I2C data input/output, active low open drain", 9 DISCH (oc) "Internal discharge path or external discharge path enable, active low open drain", 10 GND (power) "Ground", 11 ~{ATTACH} (oc) "Attachment detection, active low open drain", 12 ADDR0 (in) "I²C device address setting", 13 ADDR1 (in) "I²C device address setting", 14 ~{POWER_OK3} (oc) "Power contract flag, active low open drain", 15 ~{GPIO} (oc) "General purpose output, active low open drain", 16 ~{VBUS_EN_SNK} (oc) "VBUS sink power path enable, active low open drain", 17 ~{A_B_SIDE} (oc) "Cable orientation, active low open drain", 18 VBUS_VS_DISCH "VBUS voltage monitoring and discharge path", 19 ~{ALERT} (oc) "I2C interrupt, active low open drain", 20 ~{POWER_OK2} (oc) "Power contract flag, active low open drain", 21 VREG_1V2 (power) "1.2 V internal regulator output", 22 VSYS (power) "Power supply from system", 23 VREG_2V7 (power) "2.7 V internal regulator output", 24 VDD (power) "Power supply from USB power line", 25 EP (power) "Exposed pad is connected to ground"

## CMP-019-00044-3
designator U?, comment LT3470AIDDB
Micropower Buck Regulator with Integrated Boost and Catch Diode, 8-pin SON (DDB-8), -40 to 85 degC; Manufacturer: Analog Devices / Linear Technology; Manufacturer Part Number: LT3470AIDDB#TRMPBF; Output Voltage: 16V; Max Operating Temperature: 125°C; Min Operating Temperature: -40°C; Case/Package: DFN; Pins: 9
footprint LT-DDB-8_V (SON, 8-Leads, Body 3x2mm, Pitch 0.5mm, Thermal Pad 2.2x0.61mm)
pins: 1 FB "The LT3470X regulates its feedback pin to 1.25V. Connect the feedback resistor divider tap to this pin. Set the output voltage according to VOUT = 1.25V (1 + R1/R2) or R1 = R2 (VOUT/1.25 - 1).", 2 BIAS (power) "The BIAS pin connects to the internal boost Schottky diode and to the internal regulator. Tie to VOUT when VOUT > 2.5V or to VIN otherwise. When VBIAS > 3V the BIAS pin will supply current to the internal regulator.", 3 BOOST "The BOOST pin is used to provide a drive voltage, which is higher than the input voltage, to the internal bipolar NPN power switch.", 4 SW (power) "The SW pin is the output of the internal power switch. Connect this pin to the inductor, catch diode and boost capacitor.", 5 GND "This pin can be left floating, connected to VIN, or tied to GND.", 6 VIN (power) "The VIN pin supplies current to the LT3470X’s internal regulator and to the internal power switch. This pin must be locally bypassed.", 7 NC "This pin can be left floating, connected to VIN, or tied to GND.", 8 ~{SHDN} "The S\H\D\N\ pin is used to put the LT3470X in shutdown mode. Tie to ground to shut down the LT3470A. Apply 2V or more for normal operation. If the shutdown feature is not used, tie this pin to the VIN pin.", 9 EP "This pin can be left floating, connected to VIN, or tied to GND."

## CMP-019-00045-3
designator U?, comment LM3880MFE-1AF
Power Sequencer, 6-pin SOT-23, 250 Reel; Manufacturer: TI National Semiconductor; Manufacturer Part Number: LM3880MFE-1AF/NOPB; ComponentLink1URL: http://www.ti.com/general/docs/lit/getliterature.tsp?genericPartNumber=LM3880&fileType=pdf; ComponentLink1Description: Datasheet URL; Pins: 6; RoHS Compliant: Y
footprint DBV0006A_N (SOT23, 6-Leads, Body 3.05x1.75mm, Pitch 0.95mm, IPC Medium Density)
pins: 1 VCC (power), 2 GND (power), 3 EN (in), 4 FLAG3 (oc), 5 FLAG2 (oc), 6 FLAG1 (oc)

## CMP-019-00046-3
designator U?, comment LTC4418IUF
Prioritized 2:1 PowerPath™ Controller, 2.5 to 40 V, -40 to 85 degC, 20-Pin QFN, RoHS; Manufacturer: Analog Devices / Linear Technology; Manufacturer Part Number: LTC4418IUF#TRPBF; Pins: 21
footprint ADI-UF-20_V (SMD, 20-Leads, Body 4x4mm, Pitch 0.5mm)
pins: 1 TMR, 2 UV1 (in), 3 OV1 (in), 4 UV2 (in), 5 OV2 (in), 6 ~{VALID1} (oc), 7 ~{VALID2} (oc), 8 GND (power), 9 CAS (out), 10 INTVCC, 11 G2 (out), 12 VS2, 13 G1 (out), 14 VS1, 15 VOUT (in), 16 V2 (power), 17 V1 (power), 18 EN (in), 19 ~{SHDN} (in), 20 HYS (in), 21 EP (power)

## CMP-019-00047-3
designator U?, comment MP5087GG
Low RDSON Load Switch with Current Monitoring, 5.5 V, 7 A, -40 to 125 degC, 12-Pin QFN, RoHS; Manufacturer: Monolithic Power Systems; Manufacturer Part Number: MP5087GG-Z; Manufacturer Part Number: MP5087GG-P; Pins: 12; Mounting Technology: SMT
footprint MPS-QFN-12_V (QFN, 12-Leads, Body 2x2mm, Pitch 0.4mm)
pins: 1 EN (in), 2 GND (power), 3 VCC (power), 4 IMON (out), 5 SS (in), 6 VIN, 7 VOUT, 8 VOUT, 9 VOUT, 10 VOUT, 11 VIN, 12 PG (out)

## CMP-019-00048-3
designator U?, comment MIC95410YFL
High Side Load Switch, 2.7 to 9 V, 7 A, 6.6 mOhm, -40 to 125 degC, 10-Pin QFN, RoHS; Manufacturer: Microchip; Manufacturer Part Number: MIC95410YFL-TR; Mounting Technology: SMT; Pins: 10
footprint MCHP-QFN-10_V (QFN, 10-Leads, Body 1.2x2mm, Pitch 0.5mm)
pins: 1 NC, 2 IN, 3 IN, 4 GND (power), 5 VS (power), 6 OUT, 7 OUT, 8 OUT, 9 GC, 10 CTL (in)

## CMP-020-00022-3
designator U?, comment STM32L452CEU6
ARM® Cortex®-M4 STM32L4 Microcontroller IC 32-Bit 80MHz 512KB (512K x 8) FLASH 48-UFQFPN (7x7); Manufacturer: STMicroelectronics; RAM Size: 160; Min Supply Voltage: 2V; I/Os: 38; Case/Package: UFQFN-48; RoHS Compliant: Yes; Mounting Technology: Surface Mount; ComponentLink1Description: Manufacturer URL; ComponentLink1URL: http://www.st.com/; Pins: 49; ComponentLink2Description: Datasheet; ComponentLink2URL: http://www.st.com/st-web-ui/static/active/en/resource/technical/document/datasheet/CD00161566.pdf; Manufacturer Part Number: STM32L452CEU6
footprint STM-UFQFPN48_N
pins: 1 VBAT (power), 2 PC13 (io), 3 PC14-OSC32_IN (io) "PC14/OSC32_IN", 4 PC15-OSC32_OUT (io) "PC15/OSC32_OUT", 5 OSC_IN (in) "OSC_IN/PD0", 6 OSC_OUT (out) "OSC_OUT/PD1", 7 NRST (io), 8 VSSA (power), 9 VDDA (power), 10 PA0-WKUP (io) "PA0/WKUP/USART2_CTS/ADC12_IN0/TIM2_CH1_ETR", 11 PA1 (io) "PA1/USART2_RTS/ADC12_IN1/TIM2_CH2", 12 PA2 (io) "PA2/USART2_TX/ADC12_IN2/TIM2_CH3", 13 PA3 (io) "PA3/USART2_RX/ADC12_IN3/TIM2_CH4", 14 PA4 (io) "PA4/SPI1_NSS/USART2_CK/ADC12_IN4", 15 PA5 (io) "PA5/SPI1_SCK/ADC12_IN5", 16 PA6 (io) "PA6/SPI1_MISO/ADC12_IN6/TIM3_CH1/TIM1_BKIN", 17 PA7 (io) "PA7/SPI1_MOSI/ADC12_IN7/TIM3_CH2/TIM1_CH1N", 18 PB0 (io) "PB0/ADC12_IN8/TIM3_CH3/TIM1_CH2N", 19 PB1 (io) "PB1/ADC12_IN9/TIM3_CH4/TIM1_CH3N", 20 PB2 (io) "PB2/BOOT1", 21 PB10 (io) "PB10/I2C2_SCL/USART3_TX/TIM2_CH3", 22 PB11 (io) "PB11/I2C2_SDA/USART3_RX/TIM2_CH4", 23 VSS (power), 24 VDD (power), 25 PB12 (io) "PB12/SPI2_NSS/I2C2_SMBAl/USART3_CK/TIM1_BKIN", 26 PB13 (io) "PB13/SPI2_SCK/USART3_CTS/TIM1_CH1N", 27 PB14 (io) "PB14/SPI2_MISO/USART3_RTS/TIM1_CH2N", 28 PB15 (io) "PB15/SPI2_MOSI/TIM1_CH3N", 29 PA8 (io) "PA8/USART1_CK/TIM1_CH1/MCO", 30 PA9 (io) "PA9/USART1_TX/TIM1_CH2", 31 PA10 (io) "PA10/USART1_RX/TIM1_CH3", 32 PA11 (io) "PA11/USART1_CTS/CANRX/USBDM/TIM1_CH4", 33 PA12 (io) "PA12/USART1_RTS/CANTX/USBDP/TIM1_ETR", 34 PA13 (io) "JTMS/SWDIO/PA13", 35 VSS (power), 36 VDDUSB (power), 37 PA14 (io) "JTCK/SWCLK/PA14", 38 PA15 (io) "JTDI/TIM2_CH1_ETR/PA15/SPI1_NSS", 39 PB3 (io) "JTDO/TIM2_CH2/PB3/TRACESWO/SPI1_SCK", 40 PB4 (io) "JNTRST/TIM3_CH1/PB4/SPI1_MISO", 41 PB5 (io) "PB5/ I2C1_SMBAI/TIM3_CH2/SPI1_MOSI", 42 PB6 (io) "PB6/I2C1_SCL/TIM4_CH1/USART1_TX", 43 PB7 (io) "PB7/I2C1_SDA/TIM4_CH2/USART1_RX", 44 BOOT0 (in), 45 PB8 (io) "PB8/TIM4_CH3/I2C1_SCL/CANRX", 46 PB9 (io) "PB9/TIM4_CH4/I2C1_SDA/CANTX", 47 VSS (power), 48 VDD (power), 49 EP

## CMP-00028-00001-2
designator ST?, comment 9774030243
WA-SMSI SMT Steel Spacer, M2 Thread Internal, Tin, RoHS, Tape and Reel; Manufacturer: Wurth Electronics; Manufacturer Part Number: 9774030243R; Pins: 1
footprint WE-9774030243_V (Round Standoff M2 Steel Spacer)
pins: 1 H1

## CMP-00028-00002-2
designator TP?, comment TPAD6R  (value not drawn)  (no BOM)
0.6mm round; Pins: 1
footprint TP06R (Testpoint, round, d=0.6mm)
pins: 1 TP

## CMP-00028-00003-2
designator ST?, comment 9774040243
WA-SMSI SMT Steel Spacer, M2 Thread Internal, Tin, RoHS, Tape and Reel; Manufacturer: Wurth Electronics; Manufacturer Part Number: 9774040243R; Pins: 1
footprint WE-9774040243_V (Round Standoff M2 Steel Spacer)
pins: 1 H1

## CMP-00028-00004-2
designator PTH?, comment PTH-M2D5X5
M2 PTH (2.5mm), 5mm pad; Pins: 1
footprint PTH-M2D5X5
pins: 1 H1

## CMP-00028-00005-2
designator FD?, comment FID1X2R  (value not drawn)  (no BOM)
Fiducial - Round 1x2mm; Manufacturer: No Vendor; Pins: 0; Manufacturer Part Number: FID1X2R
footprint FID1X2R (Fiducial - Round 1x2mm)

## CMP-00029-00000-1
designator BT?, comment MS621FE-FL11E
MS Lihium Rechargeable Battery, 3 V, -20 to 60 degC, Tray; Manufacturer: SeikoInstruments; Manufacturer: Seiko; Mounting Technology: WithLeads; Pins: 2; RoHS Compliant: NotApplicable; Manufacturer Part Number: MS621FE-FL11E
footprint SEIK-MS621FE-FL11E-2_V (SMD, 2-Leads, Diameter 6.8mm)
pins: 1 +, 2 -

## CMP-031-00000-2
designator U?, comment M41T62Q6F
Low-Power Serial Real-Time Clock (RTC) with Alarm, 1.3 to 4.4 V, -40 to 85 degC, 16-Pin QFN, RoHS, Tape and Reel; Manufacturer: STMicroelectronics; Min Supply Voltage: 1.3V; Max Supply Voltage: 4.4V; Case/Package: QFN; Pins: 17; Mounting Technology: SurfaceMount; Max Operating Temperature: 85°C; Min Operating Temperature: -40°C; Manufacturer Part Number: M41T62Q6F
footprint STM-QFN-16_V (QFN, 16-Leads, Body 3x3mm, Pitch 0.5mm, Thermal Pad 1.8x1.8mm)
pins: 1 XI (in) "32 KHz oscillator input", 2 XO "32 KHz oscillator output", 3 VSS (power), 4 SQW (out) "32 KHz programmable square wave output", 5 VSS (power) "Battery supply voltage (tie VBAT to VSS if no battery is connected.)", 6 NC "Ground", 7 NC, 8 NC, 9 SDA (io) "Serial data input/output", 10 SCL (in) "Serial clock input", 11 ~{IRQ1}/OUT (oc) "Interrupt 1/output driver/frequency test output (open drain)", 12 NC, 13 NC, 14 VCC (power) "Supply voltage", 15 NC, 16 NC, 17 EP

## CMP-031-00002-2
designator U?, comment SN74LVC1G57DRYR
CONFIGURABLE MULTIPLE-FUNCTION GATE, DRY0006A, LARGE T&R; Manufacturer: Texas Instruments; Pins: 6; Manufacturer Part Number: SN74LVC1G57DRYR
footprint DRY0006A_V (SON, 6-Leads, Body 1.45x1mm, Pitch 0.5mm)
pins: 1 IN1 (in), 2 GND (power), 3 IN0 (in), 4 Y (out), 5 VCC (power), 6 IN2 (in)

## CMP-031-00003-2
designator U?, comment TS5A23159RSER
IC SWITCH DUAL SPDT 10UQFN; Manufacturer: Texas Instruments; Max Supply Voltage: 5.5V; Min Supply Voltage: 1.65V; Case/Package: QFN; Pins: 10; Min Operating Temperature: -40°C; Max Operating Temperature: 85°C; Manufacturer Part Number: TS5A23159RSER
footprint RSE0010A_V (QFN, 10-Leads, Body 1.5x2mm, Pitch 0.5mm, TI Recommended)
pins: 1 IN1 (in), 2 NO1 (io), 3 GND (power), 4 NO2 (io), 5 IN2 (in), 6 COM2 (io), 7 NC2 (io), 8 VCC (power), 9 NC1 (io), 10 COM1 (io)

## CMP-031-00004-2
designator U?, comment TS3USB221ARSER
ESD Protected, High-Speed USB 2.0 (480 Mbps) 1:2 Multiplexer / Demultiplexer Switch, 6 ohm RON, 2.5 to 3.3V, -40 to 85 degC, 10-Pin UQFN (RSE), Green (RoHS & no Sb/Br); Manufacturer: Texas Instruments; Min Supply Voltage: 2.3V; Max Supply Voltage: 3.6V; Mounting Technology: Surface Mount; Max Operating Temperature: 85°C; Case/Package: QFN; Min Operating Temperature: -40°C; Pins: 10; Manufacturer Part Number: TS3USB221ARSER
footprint RSE0010A_V (QFN, 10-Leads, Body 1.5x2mm, Pitch 0.5mm, TI Recommended)
pins: 1 1D+ (io) "Bus B", 2 1D- (io) "Bus B", 3 2D+ (io) "Bus B", 4 2D- (io) "Bus B", 5 GND (power) "Ground", 6 ~{OE} "Bus-switch enable", 7 D- (io) "Bus A", 8 D+ (io) "Bus A", 9 S (in) "Select input", 10 VCC (power) "Power supply"